# Altium schematic symbol library MAXIM MAX9705 TDFN.SchLib: 1 symbol
Pins are listed as number, name and electrical type; pins without a type are passive.

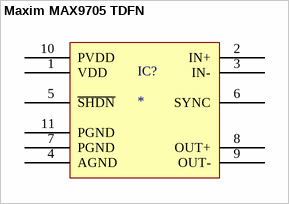
[diagram p0: symbol Maxim MAX9705 TDFN]

## Maxim MAX9705 TDFN
designator IC?
pins: 1 VDD, 2 IN+, 3 IN-, 4 AGND, 5 ~{SHDN}, 6 SYNC, 7 PGND, 8 OUT+, 9 OUT-, 10 PVDD, 11 PGND